# EAGLE library part M25P16 (library memory-micron)
SPI SERIAL FLASH
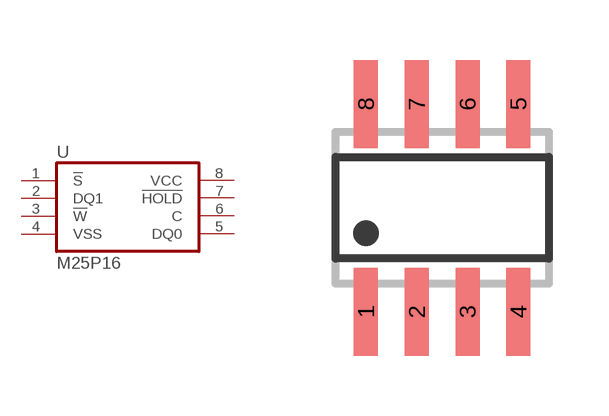
[diagram p5: symbol with the pads of SO08; footprint SO08]

Designator prefix U

## M25P16  [SO08]
1  !S!  in
2  DQ1  out
3  !W!  in
4  VSS  pwr
5  DQ0  in
6  C  in
7  !HOLD!  in
8  VCC  pwr

## Footprint SO08 (pad centres in mm)
SMALL OUTLINE INTEGRATED CIRCUIT 150 mil (3.9 mm) body/JEDEC MS-012AA
smd 0.6 x 2.2: 1 -1.905,-2.6; 2 -0.635,-2.6; 3 0.635,-2.6; 4 1.905,-2.6; 5 1.905,2.6; 6 0.635,2.6; 7 -0.635,2.6; 8 -1.905,2.6